# Altium integrated library TI Amplifiers and Linear Operational Amplifier Precision Amplifier Part One.IntLib: 2299 symbols (part 49 of 85)
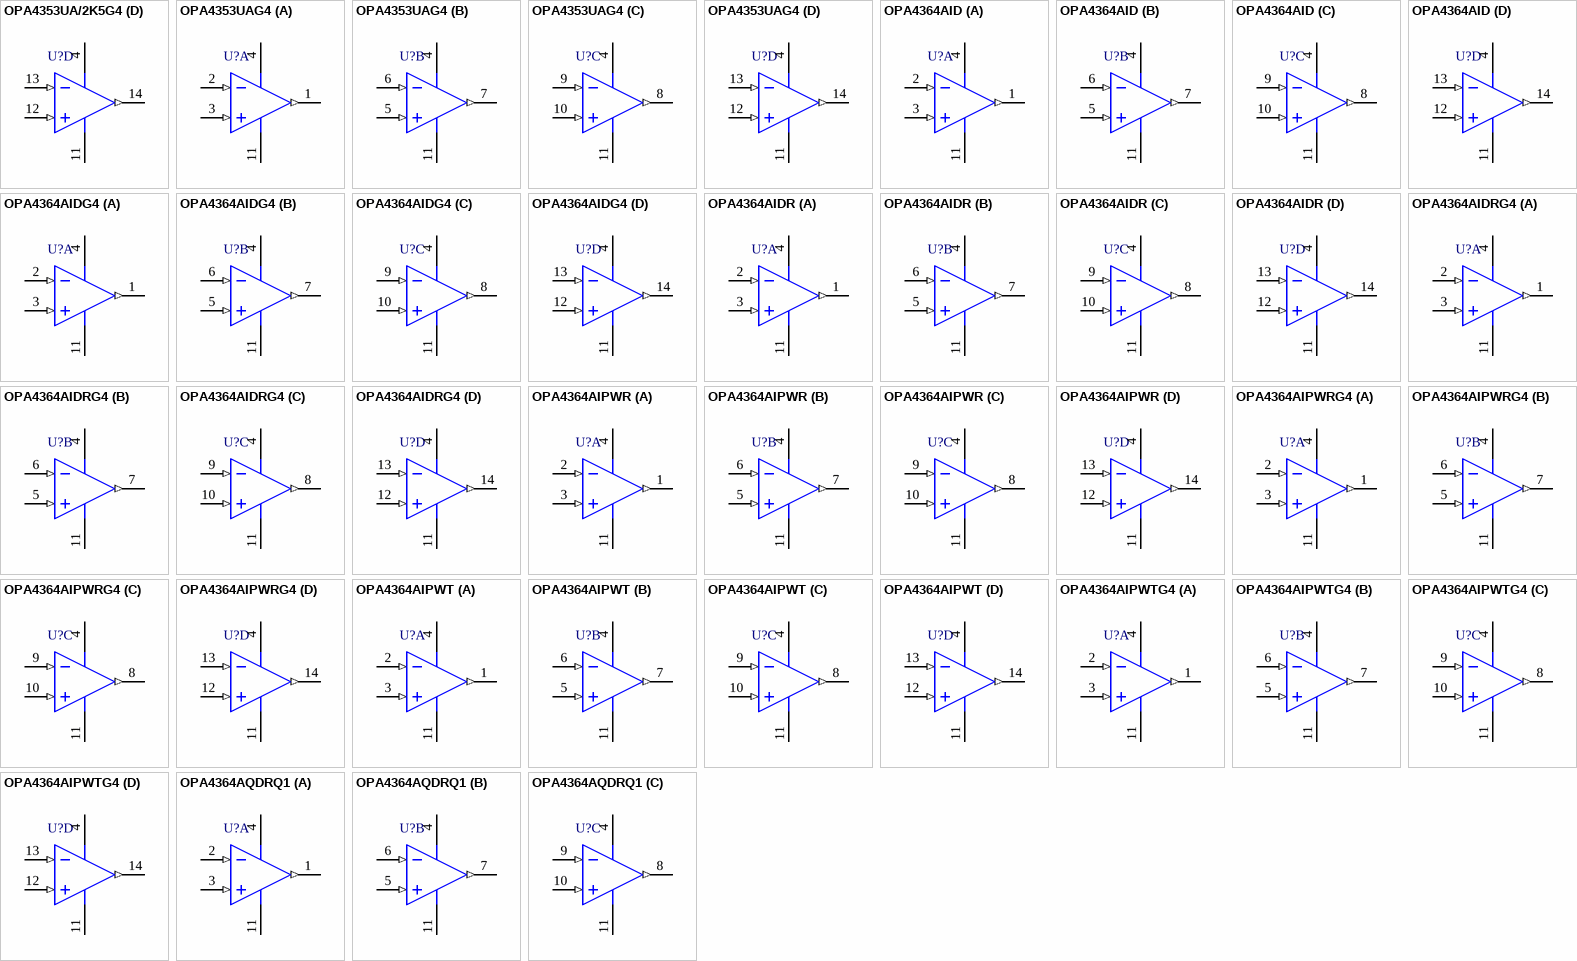
[diagram p172: symbols OPA4353UA/2K5G4 to OPA4364AQDRQ1]

## OPA4353UA/2K5G4
designator U?
High-Speed, Single-Supply, Rail-to-Rail Operational Amplifier MicroAmplifier(TM) Series, 2.7 to 5.5 V, -40 to 85 degC, 14-pin SOIC (D14), Green (RoHS & no Sb/Br); Manufacturer: Texas Instruments; PartNumber: OPA4353UA/2K5G4; CMRR(Min)(dB): 76; GBW(Typ)(MHz): 44; IIB(Max)(pA): 10; Iq per channel(Max)(mA): 8; Number of Channels: 4; Offset Drift(Typ)(uV/C): 5; Packing: LARGE T&R; Rating: Catalog; Slew Rate(Typ)(V/us): 22; Sub Family: High Output Current Amplifier (>=50mA), Low Input Bias Current Amp (<=10pA), Low Supply Voltage Amplifier (<=2.7V), Precision Amplifier; Total Supply Voltage(Max)(+5V is 5, +/-5V is 10): 5.5; Total Supply Voltage(Min)(+5V is 5, +/-5V is 10): 2.7; DatasheetVersion: SBOS103; PackageVersion: 4040047-5/M, 06/2011; PackageReference: D14; PackageDescription: 14-Pin Plastic Small Outline, Body 8.65 x 3.9 mm, Pitch 1.27 mm; Supplier 1: Digi-Key; Supplier Part Number 1: OPA4353UA/2K5G4-ND; Supplier 2: Mouser; Supplier Part Number 2: 595-OPA4353UA/2K5G4; Eco-Plan: Green (RoHS & no Sb/Br); Vio (25C)(Max)(mV): 8; Mounting Technology: Surface Mount; Code_JEDEC: MS-012; ComponentLink1Description: Manufacturer URL; ComponentLink1URL: http://www.ti.com/; ComponentLink2Description: Datasheet; ComponentLink2URL: http://www.ti.com/lit/ds/symlink/opa4353.pdf; ComponentLink3Description: Package Specification; ComponentLink3URL: http://www.ti.com/lit/ml/mpds177g/mpds177g.pdf
footprint TI-D14_N (SOIC, 14-Leads, Body 8.65x3.9mm, Pitch 1.27mm, IPC Medium Density)
footprint TI-D14_L (SOIC, 14-Leads, Body 8.65x3.9mm, Pitch 1.27mm, IPC High Density)
footprint TI-D14_M (SOIC, 14-Leads, Body 8.65x3.9mm, Pitch 1.27mm, IPC Low Density)
pins on every part: 4 V+ (power), 11 V- (power)
part A pins: 1 OUT A (out), 2 IN A- (in), 3 IN A+ (in)
part B pins: 5 IN B+ (in), 6 IN B- (in), 7 OUT B (out)
part C pins: 8 OUT C (out), 9 IN C- (in), 10 IN C+ (in)
part D pins: 12 IN D+ (in), 13 IN D- (in), 14 OUT D (out)

## OPA4353UAG4
designator U?
High-Speed, Single-Supply, Rail-to-Rail Operational Amplifier MicroAmplifier(TM) Series, 2.7 to 5.5 V, -40 to 85 degC, 14-pin SOIC (D14), Green (RoHS & no Sb/Br); Manufacturer: Texas Instruments; PartNumber: OPA4353UAG4; CMRR(Min)(dB): 76; GBW(Typ)(MHz): 44; IIB(Max)(pA): 10; Iq per channel(Max)(mA): 8; Number of Channels: 4; Offset Drift(Typ)(uV/C): 5; Packing: TUBE; Rating: Catalog; Slew Rate(Typ)(V/us): 22; Sub Family: High Output Current Amplifier (>=50mA), Low Input Bias Current Amp (<=10pA), Low Supply Voltage Amplifier (<=2.7V), Precision Amplifier; Total Supply Voltage(Max)(+5V is 5, +/-5V is 10): 5.5; Total Supply Voltage(Min)(+5V is 5, +/-5V is 10): 2.7; DatasheetVersion: SBOS103; PackageVersion: 4040047-5/M, 06/2011; PackageReference: D14; PackageDescription: 14-Pin Plastic Small Outline, Body 8.65 x 3.9 mm, Pitch 1.27 mm; Supplier 1: Digi-Key; Supplier Part Number 1: OPA4353UAG4-ND; Supplier 2: Mouser; Supplier Part Number 2: 595-OPA4353UAG4; Eco-Plan: Green (RoHS & no Sb/Br); Vio (25C)(Max)(mV): 8; Mounting Technology: Surface Mount; Code_JEDEC: MS-012; ComponentLink1Description: Manufacturer URL; ComponentLink1URL: http://www.ti.com/; ComponentLink2Description: Datasheet; ComponentLink2URL: http://www.ti.com/lit/ds/symlink/opa4353.pdf; ComponentLink3Description: Package Specification; ComponentLink3URL: http://www.ti.com/lit/ml/mpds177g/mpds177g.pdf
footprint TI-D14_N (SOIC, 14-Leads, Body 8.65x3.9mm, Pitch 1.27mm, IPC Medium Density)
footprint TI-D14_L (SOIC, 14-Leads, Body 8.65x3.9mm, Pitch 1.27mm, IPC High Density)
footprint TI-D14_M (SOIC, 14-Leads, Body 8.65x3.9mm, Pitch 1.27mm, IPC Low Density)
pins on every part: 4 V+ (power), 11 V- (power)
part A pins: 1 OUT A (out), 2 IN A- (in), 3 IN A+ (in)
part B pins: 5 IN B+ (in), 6 IN B- (in), 7 OUT B (out)
part C pins: 8 OUT C (out), 9 IN C- (in), 10 IN C+ (in)
part D pins: 12 IN D+ (in), 13 IN D- (in), 14 OUT D (out)

## OPA4364AID
designator U?
High CMR, RRIO Operational Amplifier, 1.8 to 5.5 V, -40 to 125 degC, 14-pin SOIC (D14), Green (RoHS & no Sb/Br); Manufacturer: Texas Instruments; PartNumber: OPA4364AID; CMRR(Min)(dB): 74; GBW(Typ)(MHz): 7; IIB(Max)(pA): 10; Iq per channel(Max)(mA): 0.75; Number of Channels: 4; Offset Drift(Typ)(uV/C): 3; Packing: TUBE; Rating: Catalog; Slew Rate(Typ)(V/us): 5; Sub Family: High Output Current Amplifier (>=50mA), Low Input Bias Current Amp (<=10pA), Low Supply Voltage Amplifier (<=2.7V), Precision Amplifier; Total Supply Voltage(Max)(+5V is 5, +/-5V is 10): 5.5; Total Supply Voltage(Min)(+5V is 5, +/-5V is 10): 1.8; Vio (25C)(Max)(mV): 2.5; DatasheetVersion: SBOS259C; PackageVersion: 4040047-5/M, 06/2011; PackageReference: D14; PackageDescription: 14-Pin Plastic Small Outline, Body 8.65 x 3.9 mm, Pitch 1.27 mm; Supplier 1: Digi-Key; Supplier Part Number 1: 296-14629-5-ND; Supplier 2: Newark; Supplier Part Number 2: 32H5899; Supplier 3: Mouser; Supplier Part Number 3: 595-OPA4364AID; Eco-Plan: Green (RoHS & no Sb/Br); Mounting Technology: Surface Mount; Code_JEDEC: MS-012; ComponentLink1Description: Manufacturer URL; ComponentLink1URL: http://www.ti.com/; ComponentLink2Description: Datasheet; ComponentLink2URL: http://www.ti.com/lit/ds/symlink/opa4364.pdf; ComponentLink3Description: Package Specification; ComponentLink3URL: http://www.ti.com/lit/ml/mpds177g/mpds177g.pdf
footprint TI-D14_N (SOIC, 14-Leads, Body 8.65x3.9mm, Pitch 1.27mm, IPC Medium Density)
footprint TI-D14_L (SOIC, 14-Leads, Body 8.65x3.9mm, Pitch 1.27mm, IPC High Density)
footprint TI-D14_M (SOIC, 14-Leads, Body 8.65x3.9mm, Pitch 1.27mm, IPC Low Density)
pins on every part: 4 V+ (power), 11 V- (power)
part A pins: 1 VOUT A (out), 2 IN A- (in), 3 IN A+ (in)
part B pins: 5 IN B+ (in), 6 IN B- (in), 7 VOUT B (out)
part C pins: 8 VOUT C (out), 9 IN C- (in), 10 IN C+ (in)
part D pins: 12 IN D+ (in), 13 IN D- (in), 14 VOUT D (out)

## OPA4364AIDG4
designator U?
High CMR, RRIO Operational Amplifier, 1.8 to 5.5 V, -40 to 125 degC, 14-pin SOIC (D14), Green (RoHS & no Sb/Br); Manufacturer: Texas Instruments; PartNumber: OPA4364AIDG4; CMRR(Min)(dB): 74; GBW(Typ)(MHz): 7; IIB(Max)(pA): 10; Iq per channel(Max)(mA): 0.75; Number of Channels: 4; Offset Drift(Typ)(uV/C): 3; Packing: TUBE; Rating: Catalog; Slew Rate(Typ)(V/us): 5; Sub Family: High Output Current Amplifier (>=50mA), Low Input Bias Current Amp (<=10pA), Low Supply Voltage Amplifier (<=2.7V), Precision Amplifier; Total Supply Voltage(Max)(+5V is 5, +/-5V is 10): 5.5; Total Supply Voltage(Min)(+5V is 5, +/-5V is 10): 1.8; Vio (25C)(Max)(mV): 2.5; DatasheetVersion: SBOS259C; PackageVersion: 4040047-5/M, 06/2011; PackageReference: D14; PackageDescription: 14-Pin Plastic Small Outline, Body 8.65 x 3.9 mm, Pitch 1.27 mm; Supplier 1: Digi-Key; Supplier Part Number 1: OPA4364AIDG4-ND; Supplier 2: Mouser; Supplier Part Number 2: 595-OPA4364AIDG4; Eco-Plan: Green (RoHS & no Sb/Br); Mounting Technology: Surface Mount; Code_JEDEC: MS-012; ComponentLink1Description: Manufacturer URL; ComponentLink1URL: http://www.ti.com/; ComponentLink2Description: Datasheet; ComponentLink2URL: http://www.ti.com/lit/ds/symlink/opa4364.pdf; ComponentLink3Description: Package Specification; ComponentLink3URL: http://www.ti.com/lit/ml/mpds177g/mpds177g.pdf
footprint TI-D14_N (SOIC, 14-Leads, Body 8.65x3.9mm, Pitch 1.27mm, IPC Medium Density)
footprint TI-D14_L (SOIC, 14-Leads, Body 8.65x3.9mm, Pitch 1.27mm, IPC High Density)
footprint TI-D14_M (SOIC, 14-Leads, Body 8.65x3.9mm, Pitch 1.27mm, IPC Low Density)
pins on every part: 4 V+ (power), 11 V- (power)
part A pins: 1 VOUT A (out), 2 IN A- (in), 3 IN A+ (in)
part B pins: 5 IN B+ (in), 6 IN B- (in), 7 VOUT B (out)
part C pins: 8 VOUT C (out), 9 IN C- (in), 10 IN C+ (in)
part D pins: 12 IN D+ (in), 13 IN D- (in), 14 VOUT D (out)

## OPA4364AIDR
designator U?
High CMR, RRIO Operational Amplifier, 1.8 to 5.5 V, -40 to 125 degC, 14-pin SOIC (D14), Green (RoHS & no Sb/Br); Manufacturer: Texas Instruments; PartNumber: OPA4364AIDR; CMRR(Min)(dB): 74; GBW(Typ)(MHz): 7; IIB(Max)(pA): 10; Iq per channel(Max)(mA): 0.75; Number of Channels: 4; Offset Drift(Typ)(uV/C): 3; Packing: LARGE T&R; Rating: Catalog; Slew Rate(Typ)(V/us): 5; Sub Family: High Output Current Amplifier (>=50mA), Low Input Bias Current Amp (<=10pA), Low Supply Voltage Amplifier (<=2.7V), Precision Amplifier; Total Supply Voltage(Max)(+5V is 5, +/-5V is 10): 5.5; Total Supply Voltage(Min)(+5V is 5, +/-5V is 10): 1.8; Vio (25C)(Max)(mV): 2.5; DatasheetVersion: SBOS259C; PackageVersion: 4040047-5/M, 06/2011; PackageReference: D14; PackageDescription: 14-Pin Plastic Small Outline, Body 8.65 x 3.9 mm, Pitch 1.27 mm; Supplier 1: Digi-Key; Supplier Part Number 1: OPA4364AIDR-ND; Supplier 2: Mouser; Supplier Part Number 2: 595-OPA4364AIDR; Eco-Plan: Green (RoHS & no Sb/Br); Mounting Technology: Surface Mount; Code_JEDEC: MS-012; ComponentLink1Description: Manufacturer URL; ComponentLink1URL: http://www.ti.com/; ComponentLink2Description: Datasheet; ComponentLink2URL: http://www.ti.com/lit/ds/symlink/opa4364.pdf; ComponentLink3Description: Package Specification; ComponentLink3URL: http://www.ti.com/lit/ml/mpds177g/mpds177g.pdf
footprint TI-D14_N (SOIC, 14-Leads, Body 8.65x3.9mm, Pitch 1.27mm, IPC Medium Density)
footprint TI-D14_L (SOIC, 14-Leads, Body 8.65x3.9mm, Pitch 1.27mm, IPC High Density)
footprint TI-D14_M (SOIC, 14-Leads, Body 8.65x3.9mm, Pitch 1.27mm, IPC Low Density)
pins on every part: 4 V+ (power), 11 V- (power)
part A pins: 1 VOUT A (out), 2 IN A- (in), 3 IN A+ (in)
part B pins: 5 IN B+ (in), 6 IN B- (in), 7 VOUT B (out)
part C pins: 8 VOUT C (out), 9 IN C- (in), 10 IN C+ (in)
part D pins: 12 IN D+ (in), 13 IN D- (in), 14 VOUT D (out)

## OPA4364AIDRG4
designator U?
High CMR, RRIO Operational Amplifier, 1.8 to 5.5 V, -40 to 125 degC, 14-pin SOIC (D14), Green (RoHS & no Sb/Br); Manufacturer: Texas Instruments; PartNumber: OPA4364AIDRG4; CMRR(Min)(dB): 74; GBW(Typ)(MHz): 7; IIB(Max)(pA): 10; Iq per channel(Max)(mA): 0.75; Number of Channels: 4; Offset Drift(Typ)(uV/C): 3; Packing: LARGE T&R; Rating: Catalog; Slew Rate(Typ)(V/us): 5; Sub Family: High Output Current Amplifier (>=50mA), Low Input Bias Current Amp (<=10pA), Low Supply Voltage Amplifier (<=2.7V), Precision Amplifier; Total Supply Voltage(Max)(+5V is 5, +/-5V is 10): 5.5; Total Supply Voltage(Min)(+5V is 5, +/-5V is 10): 1.8; Vio (25C)(Max)(mV): 2.5; DatasheetVersion: SBOS259C; PackageVersion: 4040047-5/M, 06/2011; PackageReference: D14; PackageDescription: 14-Pin Plastic Small Outline, Body 8.65 x 3.9 mm, Pitch 1.27 mm; Supplier 1: Digi-Key; Supplier Part Number 1: OPA4364AIDRG4-ND; Supplier 2: Newark; Supplier Part Number 2: 54K0173; Supplier 3: Mouser; Supplier Part Number 3: 595-OPA4364AIDRG4; Eco-Plan: Green (RoHS & no Sb/Br); Mounting Technology: Surface Mount; Code_JEDEC: MS-012; ComponentLink1Description: Manufacturer URL; ComponentLink1URL: http://www.ti.com/; ComponentLink2Description: Datasheet; ComponentLink2URL: http://www.ti.com/lit/ds/symlink/opa4364.pdf; ComponentLink3Description: Package Specification; ComponentLink3URL: http://www.ti.com/lit/ml/mpds177g/mpds177g.pdf
footprint TI-D14_N (SOIC, 14-Leads, Body 8.65x3.9mm, Pitch 1.27mm, IPC Medium Density)
footprint TI-D14_L (SOIC, 14-Leads, Body 8.65x3.9mm, Pitch 1.27mm, IPC High Density)
footprint TI-D14_M (SOIC, 14-Leads, Body 8.65x3.9mm, Pitch 1.27mm, IPC Low Density)
pins on every part: 4 V+ (power), 11 V- (power)
part A pins: 1 VOUT A (out), 2 IN A- (in), 3 IN A+ (in)
part B pins: 5 IN B+ (in), 6 IN B- (in), 7 VOUT B (out)
part C pins: 8 VOUT C (out), 9 IN C- (in), 10 IN C+ (in)
part D pins: 12 IN D+ (in), 13 IN D- (in), 14 VOUT D (out)

## OPA4364AIPWR
designator U?
High CMR, RRIO Operational Amplifier, 1.8 to 5.5 V, -40 to 125 degC, 14-pin SOP (PW14), Green (RoHS & no Sb/Br); Manufacturer: Texas Instruments; PartNumber: OPA4364AIPWR; CMRR(Min)(dB): 74; GBW(Typ)(MHz): 7; IIB(Max)(pA): 10; Iq per channel(Max)(mA): 0.75; Number of Channels: 4; Offset Drift(Typ)(uV/C): 3; Packing: LARGE T&R; Rating: Catalog; Slew Rate(Typ)(V/us): 5; Sub Family: High Output Current Amplifier (>=50mA), Low Input Bias Current Amp (<=10pA), Low Supply Voltage Amplifier (<=2.7V), Precision Amplifier; Total Supply Voltage(Max)(+5V is 5, +/-5V is 10): 5.5; Total Supply Voltage(Min)(+5V is 5, +/-5V is 10): 1.8; Vio (25C)(Max)(mV): 2.5; DatasheetVersion: SBOS259C; PackageVersion: 4040064-3/G, 02/2011; PackageReference: PW14; PackageDescription: 14-Pin Plastic Small Outline, Body 5 x 4.4 mm, Pitch 0.65 mm; Supplier 1: Digi-Key; Supplier Part Number 1: OPA4364AIPWR-ND; Supplier 2: Newark; Supplier Part Number 2: 32H5901; Supplier 3: Mouser; Supplier Part Number 3: 595-OPA4364AIPWR; Eco-Plan: Green (RoHS & no Sb/Br); Mounting Technology: Surface Mount; Code_JEDEC: MO-153; ComponentLink1Description: Manufacturer URL; ComponentLink1URL: http://www.ti.com/; ComponentLink2Description: Datasheet; ComponentLink2URL: http://www.ti.com/lit/ds/symlink/opa4364.pdf; ComponentLink3Description: Package Specification; ComponentLink3URL: http://www.ti.com/litv/pdf/mpds360
footprint TI-PW14_N (SOP, 14-Leads, Body 5x4.4mm, Pitch 0.65mm, IPC Medium Density)
footprint TI-PW14_L (SOP, 14-Leads, Body 5x4.4mm, Pitch 0.65mm, IPC High Density)
footprint TI-PW14_M (SOP, 14-Leads, Body 5x4.4mm, Pitch 0.65mm, IPC Low Density)
pins on every part: 4 V+ (power), 11 V- (power)
part A pins: 1 VOUT A (out), 2 IN A- (in), 3 IN A+ (in)
part B pins: 5 IN B+ (in), 6 IN B- (in), 7 VOUT B (out)
part C pins: 8 VOUT C (out), 9 IN C- (in), 10 IN C+ (in)
part D pins: 12 IN D+ (in), 13 IN D- (in), 14 VOUT D (out)

## OPA4364AIPWRG4
designator U?
High CMR, RRIO Operational Amplifier, 1.8 to 5.5 V, -40 to 125 degC, 14-pin SOP (PW14), Green (RoHS & no Sb/Br); Manufacturer: Texas Instruments; PartNumber: OPA4364AIPWRG4; CMRR(Min)(dB): 74; GBW(Typ)(MHz): 7; IIB(Max)(pA): 10; Iq per channel(Max)(mA): 0.75; Number of Channels: 4; Offset Drift(Typ)(uV/C): 3; Packing: LARGE T&R; Rating: Catalog; Slew Rate(Typ)(V/us): 5; Sub Family: High Output Current Amplifier (>=50mA), Low Input Bias Current Amp (<=10pA), Low Supply Voltage Amplifier (<=2.7V), Precision Amplifier; Total Supply Voltage(Max)(+5V is 5, +/-5V is 10): 5.5; Total Supply Voltage(Min)(+5V is 5, +/-5V is 10): 1.8; Vio (25C)(Max)(mV): 2.5; DatasheetVersion: SBOS259C; PackageVersion: 4040064-3/G, 02/2011; PackageReference: PW14; PackageDescription: 14-Pin Plastic Small Outline, Body 5 x 4.4 mm, Pitch 0.65 mm; Supplier 1: Digi-Key; Supplier Part Number 1: OPA4364AIPWRG4-ND; Supplier 2: Mouser; Supplier Part Number 2: 595-OPA4364AIPWRG4; Eco-Plan: Green (RoHS & no Sb/Br); Mounting Technology: Surface Mount; Code_JEDEC: MO-153; ComponentLink1Description: Manufacturer URL; ComponentLink1URL: http://www.ti.com/; ComponentLink2Description: Datasheet; ComponentLink2URL: http://www.ti.com/lit/ds/symlink/opa4364.pdf; ComponentLink3Description: Package Specification; ComponentLink3URL: http://www.ti.com/litv/pdf/mpds360
footprint TI-PW14_N (SOP, 14-Leads, Body 5x4.4mm, Pitch 0.65mm, IPC Medium Density)
footprint TI-PW14_L (SOP, 14-Leads, Body 5x4.4mm, Pitch 0.65mm, IPC High Density)
footprint TI-PW14_M (SOP, 14-Leads, Body 5x4.4mm, Pitch 0.65mm, IPC Low Density)
pins on every part: 4 V+ (power), 11 V- (power)
part A pins: 1 VOUT A (out), 2 IN A- (in), 3 IN A+ (in)
part B pins: 5 IN B+ (in), 6 IN B- (in), 7 VOUT B (out)
part C pins: 8 VOUT C (out), 9 IN C- (in), 10 IN C+ (in)
part D pins: 12 IN D+ (in), 13 IN D- (in), 14 VOUT D (out)

## OPA4364AIPWT
designator U?
High CMR, RRIO Operational Amplifier, 1.8 to 5.5 V, -40 to 125 degC, 14-pin SOP (PW14), Green (RoHS & no Sb/Br); Manufacturer: Texas Instruments; PartNumber: OPA4364AIPWT; CMRR(Min)(dB): 74; GBW(Typ)(MHz): 7; IIB(Max)(pA): 10; Iq per channel(Max)(mA): 0.75; Number of Channels: 4; Offset Drift(Typ)(uV/C): 3; Packing: SMALL T&R; Rating: Catalog; Slew Rate(Typ)(V/us): 5; Sub Family: High Output Current Amplifier (>=50mA), Low Input Bias Current Amp (<=10pA), Low Supply Voltage Amplifier (<=2.7V), Precision Amplifier; Total Supply Voltage(Max)(+5V is 5, +/-5V is 10): 5.5; Total Supply Voltage(Min)(+5V is 5, +/-5V is 10): 1.8; Vio (25C)(Max)(mV): 2.5; DatasheetVersion: SBOS259C; PackageVersion: 4040064-3/G, 02/2011; PackageReference: PW14; PackageDescription: 14-Pin Plastic Small Outline, Body 5 x 4.4 mm, Pitch 0.65 mm; Supplier 1: Digi-Key; Supplier Part Number 1: 296-14630-2-ND; Supplier 2: Digi-Key; Supplier Part Number 2: 296-14630-1-ND; Supplier 3: Digi-Key; Supplier Part Number 3: 296-14630-6-ND; Supplier 4: Farnell; Supplier Part Number 4: 1648713; Supplier 5: Newark; Supplier Part Number 5: 80P7371; Supplier 6: Newark; Supplier Part Number 6: 32H5902; Supplier 7: Mouser; Supplier Part Number 7: 595-OPA4364AIPWT; Eco-Plan: Green (RoHS & no Sb/Br); Mounting Technology: Surface Mount; Code_JEDEC: MO-153; ComponentLink1Description: Manufacturer URL; ComponentLink1URL: http://www.ti.com/; ComponentLink2Description: Datasheet; ComponentLink2URL: http://www.ti.com/lit/ds/symlink/opa4364.pdf; ComponentLink3Description: Package Specification; ComponentLink3URL: http://www.ti.com/litv/pdf/mpds360
footprint TI-PW14_N (SOP, 14-Leads, Body 5x4.4mm, Pitch 0.65mm, IPC Medium Density)
footprint TI-PW14_L (SOP, 14-Leads, Body 5x4.4mm, Pitch 0.65mm, IPC High Density)
footprint TI-PW14_M (SOP, 14-Leads, Body 5x4.4mm, Pitch 0.65mm, IPC Low Density)
pins on every part: 4 V+ (power), 11 V- (power)
part A pins: 1 VOUT A (out), 2 IN A- (in), 3 IN A+ (in)
part B pins: 5 IN B+ (in), 6 IN B- (in), 7 VOUT B (out)
part C pins: 8 VOUT C (out), 9 IN C- (in), 10 IN C+ (in)
part D pins: 12 IN D+ (in), 13 IN D- (in), 14 VOUT D (out)

## OPA4364AIPWTG4
designator U?
High CMR, RRIO Operational Amplifier, 1.8 to 5.5 V, -40 to 125 degC, 14-pin SOP (PW14), Green (RoHS & no Sb/Br); Manufacturer: Texas Instruments; PartNumber: OPA4364AIPWTG4; CMRR(Min)(dB): 74; GBW(Typ)(MHz): 7; IIB(Max)(pA): 10; Iq per channel(Max)(mA): 0.75; Number of Channels: 4; Offset Drift(Typ)(uV/C): 3; Packing: SMALL T&R; Rating: Catalog; Slew Rate(Typ)(V/us): 5; Sub Family: High Output Current Amplifier (>=50mA), Low Input Bias Current Amp (<=10pA), Low Supply Voltage Amplifier (<=2.7V), Precision Amplifier; Total Supply Voltage(Max)(+5V is 5, +/-5V is 10): 5.5; Total Supply Voltage(Min)(+5V is 5, +/-5V is 10): 1.8; Vio (25C)(Max)(mV): 2.5; DatasheetVersion: SBOS259C; PackageVersion: 4040064-3/G, 02/2011; PackageReference: PW14; PackageDescription: 14-Pin Plastic Small Outline, Body 5 x 4.4 mm, Pitch 0.65 mm; Supplier 1: Digi-Key; Supplier Part Number 1: OPA4364AIPWTG4-ND; Supplier 2: Mouser; Supplier Part Number 2: 595-OPA4364AIPWTG4; Eco-Plan: Green (RoHS & no Sb/Br); Mounting Technology: Surface Mount; Code_JEDEC: MO-153; ComponentLink1Description: Manufacturer URL; ComponentLink1URL: http://www.ti.com/; ComponentLink2Description: Datasheet; ComponentLink2URL: http://www.ti.com/lit/ds/symlink/opa4364.pdf; ComponentLink3Description: Package Specification; ComponentLink3URL: http://www.ti.com/litv/pdf/mpds360
footprint TI-PW14_N (SOP, 14-Leads, Body 5x4.4mm, Pitch 0.65mm, IPC Medium Density)
footprint TI-PW14_L (SOP, 14-Leads, Body 5x4.4mm, Pitch 0.65mm, IPC High Density)
footprint TI-PW14_M (SOP, 14-Leads, Body 5x4.4mm, Pitch 0.65mm, IPC Low Density)
pins on every part: 4 V+ (power), 11 V- (power)
part A pins: 1 VOUT A (out), 2 IN A- (in), 3 IN A+ (in)
part B pins: 5 IN B+ (in), 6 IN B- (in), 7 VOUT B (out)
part C pins: 8 VOUT C (out), 9 IN C- (in), 10 IN C+ (in)
part D pins: 12 IN D+ (in), 13 IN D- (in), 14 VOUT D (out)

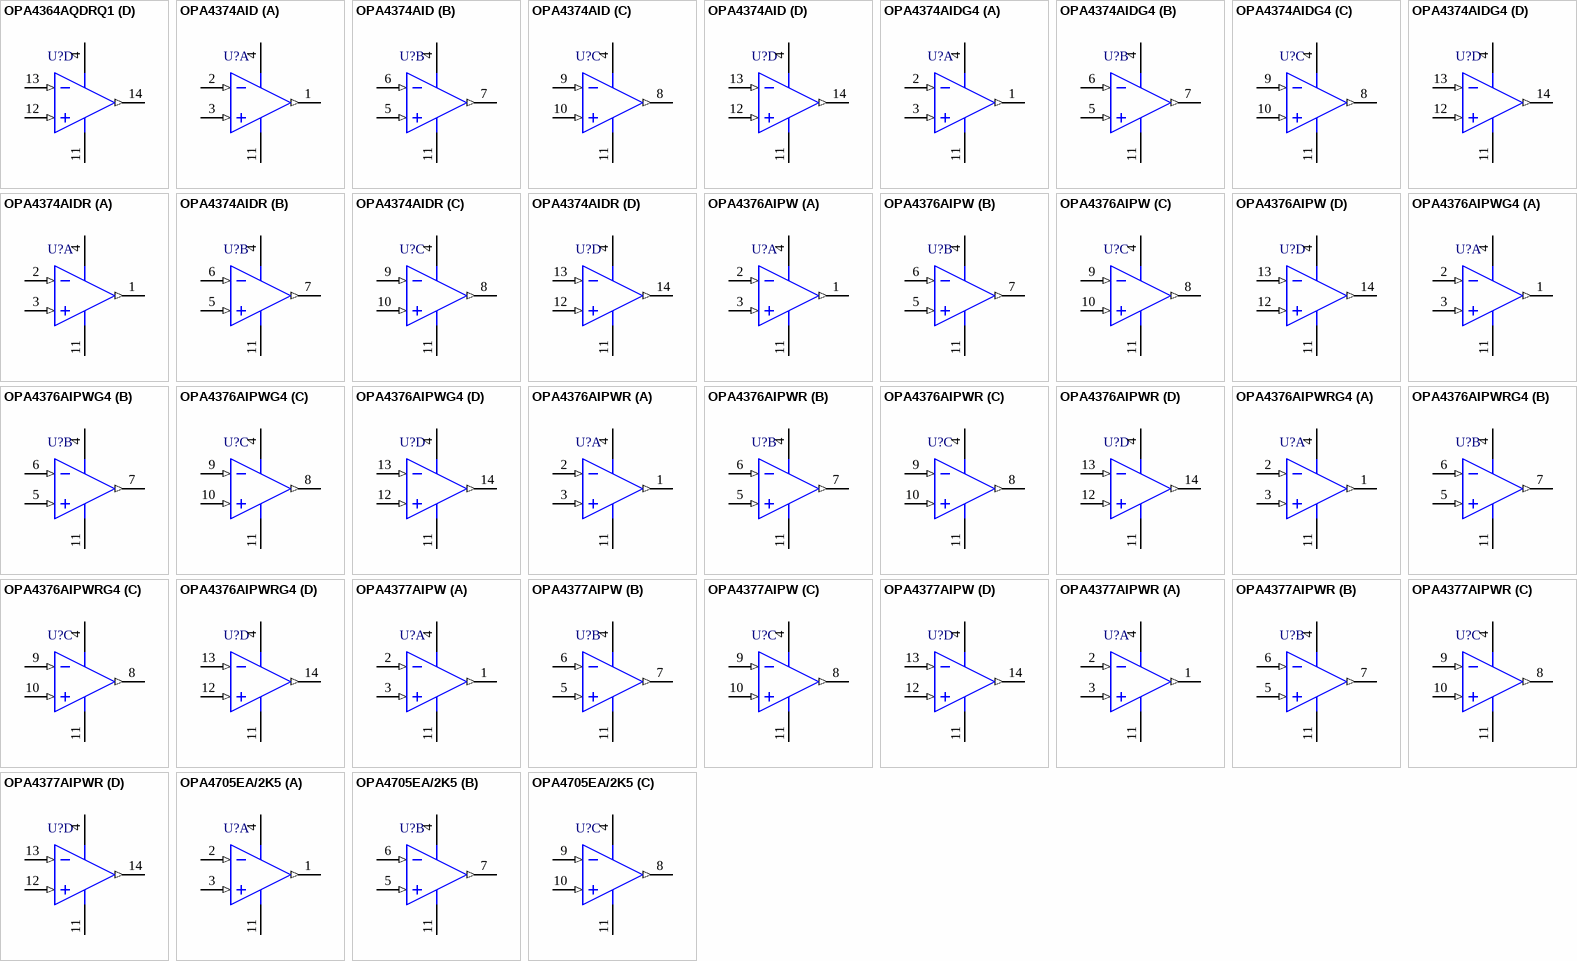
[diagram p67: symbols OPA4364AQDRQ1 to OPA4705EA/2K5]

## OPA4364AQDRQ1
designator U?
Automotive Catalog High CMR, RRIO Operational Amplifier, 1.8 to 5.5 V, -40 to 125 degC, 14-pin SOIC (D14), Green (RoHS & no Sb/Br); Manufacturer: Texas Instruments; PartNumber: OPA4364AQDRQ1; CMRR(Min)(dB): 74; GBW(Typ)(MHz): 7; IIB(Max)(pA): 10; Iq per channel(Max)(mA): 0.75; Number of Channels: 4; Offset Drift(Typ)(uV/C): 3; Packing: LARGE T&R; Slew Rate(Typ)(V/us): 5; Sub Family: High Output Current Amplifier (>=50mA), Low Input Bias Current Amp (<=10pA), Low Supply Voltage Amplifier (<=2.7V), Precision Amplifier; Total Supply Voltage(Max)(+5V is 5, +/-5V is 10): 5.5; Total Supply Voltage(Min)(+5V is 5, +/-5V is 10): 1.8; DatasheetVersion: SGLS363A; PackageVersion: 4040047-5/M, 06/2011; PackageReference: D14; PackageDescription: 14-Pin Plastic Small Outline, Body 8.65 x 3.9 mm, Pitch 1.27 mm; Supplier 1: Digi-Key; Supplier Part Number 1: 296-24548-2-ND; Supplier 2: Digi-Key; Supplier Part Number 2: 296-24548-1-ND; Supplier 3: Digi-Key; Supplier Part Number 3: 296-24548-6-ND; Supplier 4: Mouser; Supplier Part Number 4: 595-OPA4364AQDRQ1; Eco-Plan: Green (RoHS & no Sb/Br); Rating: Automotive; Vio (25C)(Max)(mV): 3; Mounting Technology: Surface Mount; Code_JEDEC: MS-012; ComponentLink1Description: Manufacturer URL; ComponentLink1URL: http://www.ti.com/; ComponentLink2Description: Datasheet; ComponentLink2URL: http://www.ti.com/lit/ds/symlink/opa4364-q1.pdf; ComponentLink3Description: Package Specification; ComponentLink3URL: http://www.ti.com/lit/ml/mpds177g/mpds177g.pdf
footprint TI-D14_N (SOIC, 14-Leads, Body 8.65x3.9mm, Pitch 1.27mm, IPC Medium Density)
footprint TI-D14_L (SOIC, 14-Leads, Body 8.65x3.9mm, Pitch 1.27mm, IPC High Density)
footprint TI-D14_M (SOIC, 14-Leads, Body 8.65x3.9mm, Pitch 1.27mm, IPC Low Density)
pins on every part: 4 V+ (power), 11 V- (power)
part A pins: 1 VOUT A (out), 2 IN A- (in), 3 IN A+ (in)
part B pins: 5 IN B+ (in), 6 IN B- (in), 7 VOUT B (out)
part C pins: 8 VOUT C (out), 9 IN C- (in), 10 IN C+ (in)
part D pins: 12 IN D+ (in), 13 IN D- (in), 14 VOUT D (out)

## OPA4374AID
designator U?
Quad 6.5 MHz, 585 uA, Rail-to-Rail I/O CMOS Operational Amplifier, 2.3 to 5.5 V, -40 to 125 degC, 14-pin SOIC (D14), Green (RoHS & no Sb/Br); Manufacturer: Texas Instruments; PartNumber: OPA4374AID; CMRR(Min)(dB): 80; GBW(Typ)(MHz): 6.5; IIB(Max)(pA): 10; Iq per channel(Max)(mA): 0.75; Number of Channels: 4; Offset Drift(Typ)(uV/C): 3; Packing: TUBE; Rating: Catalog; Slew Rate(Typ)(V/us): 5; Sub Family: High Output Current Amplifier (>=50mA), Low Input Bias Current Amp (<=10pA), Low Supply Voltage Amplifier (<=2.7V), Precision Amplifier; Total Supply Voltage(Max)(+5V is 5, +/-5V is 10): 5.5; Total Supply Voltage(Min)(+5V is 5, +/-5V is 10): 2.3; DatasheetVersion: SBOS279E; PackageVersion: 4040047-5/M, 06/2011; PackageReference: D14; PackageDescription: 14-Pin Plastic Small Outline, Body 8.65 x 3.9 mm, Pitch 1.27 mm; Supplier 1: Digi-Key; Supplier Part Number 1: 296-18201-ND; Supplier 2: Mouser; Supplier Part Number 2: 595-OPA4374AID; Eco-Plan: Green (RoHS & no Sb/Br); Vio (25C)(Max)(mV): 5; Mounting Technology: Surface Mount; Code_JEDEC: MS-012; ComponentLink1Description: Manufacturer URL; ComponentLink1URL: http://www.ti.com/; ComponentLink2Description: Datasheet; ComponentLink2URL: http://www.ti.com/lit/ds/symlink/opa4374.pdf; ComponentLink3Description: Package Specification; ComponentLink3URL: http://www.ti.com/lit/ml/mpds177g/mpds177g.pdf
footprint TI-D14_N (SOIC, 14-Leads, Body 8.65x3.9mm, Pitch 1.27mm, IPC Medium Density)
footprint TI-D14_L (SOIC, 14-Leads, Body 8.65x3.9mm, Pitch 1.27mm, IPC High Density)
footprint TI-D14_M (SOIC, 14-Leads, Body 8.65x3.9mm, Pitch 1.27mm, IPC Low Density)
pins on every part: 4 V+ (power), 11 V- (power)
part A pins: 1 OUT A (out), 2 IN A- (in), 3 IN A+ (in)
part B pins: 5 IN B+ (in), 6 IN B- (in), 7 OUT B (out)
part C pins: 8 OUT C (out), 9 IN C- (in), 10 IN C+ (in)
part D pins: 12 IN D+ (in), 13 IN D- (in), 14 OUT D (out)

## OPA4374AIDG4
designator U?
Quad 6.5 MHz, 585 uA, Rail-to-Rail I/O CMOS Operational Amplifier, 2.3 to 5.5 V, -40 to 125 degC, 14-pin SOIC (D14), Green (RoHS & no Sb/Br); Manufacturer: Texas Instruments; PartNumber: OPA4374AIDG4; CMRR(Min)(dB): 80; GBW(Typ)(MHz): 6.5; IIB(Max)(pA): 10; Iq per channel(Max)(mA): 0.75; Number of Channels: 4; Offset Drift(Typ)(uV/C): 3; Packing: TUBE; Rating: Catalog; Slew Rate(Typ)(V/us): 5; Sub Family: High Output Current Amplifier (>=50mA), Low Input Bias Current Amp (<=10pA), Low Supply Voltage Amplifier (<=2.7V), Precision Amplifier; Total Supply Voltage(Max)(+5V is 5, +/-5V is 10): 5.5; Total Supply Voltage(Min)(+5V is 5, +/-5V is 10): 2.3; DatasheetVersion: SBOS279E; PackageVersion: 4040047-5/M, 06/2011; PackageReference: D14; PackageDescription: 14-Pin Plastic Small Outline, Body 8.65 x 3.9 mm, Pitch 1.27 mm; Supplier 1: Digi-Key; Supplier Part Number 1: OPA4374AIDG4-ND; Supplier 2: Mouser; Supplier Part Number 2: 595-OPA4374AIDG4; Eco-Plan: Green (RoHS & no Sb/Br); Vio (25C)(Max)(mV): 5; Mounting Technology: Surface Mount; Code_JEDEC: MS-012; ComponentLink1Description: Manufacturer URL; ComponentLink1URL: http://www.ti.com/; ComponentLink2Description: Datasheet; ComponentLink2URL: http://www.ti.com/lit/ds/symlink/opa4374.pdf; ComponentLink3Description: Package Specification; ComponentLink3URL: http://www.ti.com/lit/ml/mpds177g/mpds177g.pdf
footprint TI-D14_N (SOIC, 14-Leads, Body 8.65x3.9mm, Pitch 1.27mm, IPC Medium Density)
footprint TI-D14_L (SOIC, 14-Leads, Body 8.65x3.9mm, Pitch 1.27mm, IPC High Density)
footprint TI-D14_M (SOIC, 14-Leads, Body 8.65x3.9mm, Pitch 1.27mm, IPC Low Density)
pins on every part: 4 V+ (power), 11 V- (power)
part A pins: 1 OUT A (out), 2 IN A- (in), 3 IN A+ (in)
part B pins: 5 IN B+ (in), 6 IN B- (in), 7 OUT B (out)
part C pins: 8 OUT C (out), 9 IN C- (in), 10 IN C+ (in)
part D pins: 12 IN D+ (in), 13 IN D- (in), 14 OUT D (out)

## OPA4374AIDR
designator U?
Quad 6.5 MHz, 585 uA, Rail-to-Rail I/O CMOS Operational Amplifier, 2.3 to 5.5 V, -40 to 125 degC, 14-pin SOIC (D14), Green (RoHS & no Sb/Br); Manufacturer: Texas Instruments; PartNumber: OPA4374AIDR; CMRR(Min)(dB): 80; GBW(Typ)(MHz): 6.5; IIB(Max)(pA): 10; Iq per channel(Max)(mA): 0.75; Number of Channels: 4; Offset Drift(Typ)(uV/C): 3; Packing: LARGE T&R; Rating: Catalog; Slew Rate(Typ)(V/us): 5; Sub Family: High Output Current Amplifier (>=50mA), Low Input Bias Current Amp (<=10pA), Low Supply Voltage Amplifier (<=2.7V), Precision Amplifier; Total Supply Voltage(Max)(+5V is 5, +/-5V is 10): 5.5; Total Supply Voltage(Min)(+5V is 5, +/-5V is 10): 2.3; DatasheetVersion: SBOS279E; PackageVersion: 4040047-5/M, 06/2011; PackageReference: D14; PackageDescription: 14-Pin Plastic Small Outline, Body 8.65 x 3.9 mm, Pitch 1.27 mm; Supplier 1: Digi-Key; Supplier Part Number 1: OPA4374AIDR-ND; Supplier 2: Newark; Supplier Part Number 2: 90H2249; Supplier 3: Mouser; Supplier Part Number 3: 595-OPA4374AIDR; Eco-Plan: Green (RoHS & no Sb/Br); Vio (25C)(Max)(mV): 5; Mounting Technology: Surface Mount; Code_JEDEC: MS-012; ComponentLink1Description: Manufacturer URL; ComponentLink1URL: http://www.ti.com/; ComponentLink2Description: Datasheet; ComponentLink2URL: http://www.ti.com/lit/ds/symlink/opa4374.pdf; ComponentLink3Description: Package Specification; ComponentLink3URL: http://www.ti.com/lit/ml/mpds177g/mpds177g.pdf
footprint TI-D14_N (SOIC, 14-Leads, Body 8.65x3.9mm, Pitch 1.27mm, IPC Medium Density)
footprint TI-D14_L (SOIC, 14-Leads, Body 8.65x3.9mm, Pitch 1.27mm, IPC High Density)
footprint TI-D14_M (SOIC, 14-Leads, Body 8.65x3.9mm, Pitch 1.27mm, IPC Low Density)
pins on every part: 4 V+ (power), 11 V- (power)
part A pins: 1 OUT A (out), 2 IN A- (in), 3 IN A+ (in)
part B pins: 5 IN B+ (in), 6 IN B- (in), 7 OUT B (out)
part C pins: 8 OUT C (out), 9 IN C- (in), 10 IN C+ (in)
part D pins: 12 IN D+ (in), 13 IN D- (in), 14 OUT D (out)

## OPA4376AIPW
designator U?
Precision, Low Noise, Low Quiescent Current Operational Amplifier, 2 to 5.5 V, -40 to 125 degC, 14-pin SOP (PW14), Green (RoHS & no Sb/Br); Manufacturer: Texas Instruments; PartNumber: OPA4376AIPW; CMRR(Min)(dB): 76; IIB(Max)(pA): 10; Iq per channel(Max)(mA): 0.95; Number of Channels: 4; Offset Drift(Typ)(uV/C): 0.32; Slew Rate(Typ)(V/us): 2; Sub Family: Low Input Bias Current Amp (<=10pA), Low Noise Amp (<=10nV/rtHz), Low Offset Voltage Amplifier (<=500uV), Low Supply Voltage Amplifier (<=2.7V), Precision Amplifier; Total Supply Voltage(Max)(+5V is 5, +/-5V is 10): 5.5; Vio (25C)(Max)(mV): 0.025; Vn at 1kHz(Typ)(nV/rtHz): 7.5; DatasheetVersion: SBOS406F; PackageVersion: 4040064-3/G, 02/2011; PackageReference: PW14; PackageDescription: 14-Pin Plastic Small Outline, Body 5 x 4.4 mm, Pitch 0.65 mm; Supplier 1: Digi-Key; Supplier Part Number 1: 296-26288-5-ND; Supplier 2: Farnell; Supplier Part Number 2: 1560642; Supplier 3: Newark; Supplier Part Number 3: 94M8595; Supplier 4: Mouser; Supplier Part Number 4: 595-OPA4376AIPW; Eco-Plan: Green (RoHS & no Sb/Br); Total Supply Voltage(Min)(+5V is 5, +/-5V is 10): 2; Mounting Technology: Surface Mount; Code_JEDEC: MO-153; ComponentLink1Description: Manufacturer URL; ComponentLink1URL: http://www.ti.com/; ComponentLink2Description: Datasheet; ComponentLink2URL: http://www.ti.com/general/docs/lit/getliterature.tsp?genericPartNumber=OPA4376&fileType=pdf; ComponentLink3Description: Package Specification; ComponentLink3URL: http://www.ti.com/litv/pdf/mpds360
footprint TI-PW14_N (SOP, 14-Leads, Body 5x4.4mm, Pitch 0.65mm, IPC Medium Density)
footprint TI-PW14_L (SOP, 14-Leads, Body 5x4.4mm, Pitch 0.65mm, IPC High Density)
footprint TI-PW14_M (SOP, 14-Leads, Body 5x4.4mm, Pitch 0.65mm, IPC Low Density)
pins on every part: 4 V+ (power), 11 V- (power)
part A pins: 1 OUT A (out), 2 IN A- (in), 3 IN A+ (in)
part B pins: 5 IN B+ (in), 6 IN B- (in), 7 OUT B (out)
part C pins: 8 OUT C (out), 9 IN C- (in), 10 IN C+ (in)
part D pins: 12 IN D+ (in), 13 IN D- (in), 14 OUT D (out)

## OPA4376AIPWG4
designator U?
Precision, Low Noise, Low Quiescent Current Operational Amplifier, 2 to 5.5 V, -40 to 125 degC, 14-pin SOP (PW14), Green (RoHS & no Sb/Br); Manufacturer: Texas Instruments; PartNumber: OPA4376AIPWG4; CMRR(Min)(dB): 76; IIB(Max)(pA): 10; Iq per channel(Max)(mA): 0.95; Number of Channels: 4; Offset Drift(Typ)(uV/C): 0.32; Slew Rate(Typ)(V/us): 2; Sub Family: Low Input Bias Current Amp (<=10pA), Low Noise Amp (<=10nV/rtHz), Low Offset Voltage Amplifier (<=500uV), Low Supply Voltage Amplifier (<=2.7V), Precision Amplifier; Total Supply Voltage(Max)(+5V is 5, +/-5V is 10): 5.5; Vio (25C)(Max)(mV): 0.025; Vn at 1kHz(Typ)(nV/rtHz): 7.5; DatasheetVersion: SBOS406F; PackageVersion: 4040064-3/G, 02/2011; PackageReference: PW14; PackageDescription: 14-Pin Plastic Small Outline, Body 5 x 4.4 mm, Pitch 0.65 mm; Supplier 1: Digi-Key; Supplier Part Number 1: OPA4376AIPWG4-ND; Supplier 2: Newark; Supplier Part Number 2: 60M1703; Supplier 3: Mouser; Supplier Part Number 3: 595-OPA4376AIPWG4; Eco-Plan: Green (RoHS & no Sb/Br); Total Supply Voltage(Min)(+5V is 5, +/-5V is 10): 2; Mounting Technology: Surface Mount; Code_JEDEC: MO-153; ComponentLink1Description: Manufacturer URL; ComponentLink1URL: http://www.ti.com/; ComponentLink2Description: Datasheet; ComponentLink2URL: http://www.ti.com/general/docs/lit/getliterature.tsp?genericPartNumber=OPA4376&fileType=pdf; ComponentLink3Description: Package Specification; ComponentLink3URL: http://www.ti.com/litv/pdf/mpds360
footprint TI-PW14_N (SOP, 14-Leads, Body 5x4.4mm, Pitch 0.65mm, IPC Medium Density)
footprint TI-PW14_L (SOP, 14-Leads, Body 5x4.4mm, Pitch 0.65mm, IPC High Density)
footprint TI-PW14_M (SOP, 14-Leads, Body 5x4.4mm, Pitch 0.65mm, IPC Low Density)
pins on every part: 4 V+ (power), 11 V- (power)
part A pins: 1 OUT A (out), 2 IN A- (in), 3 IN A+ (in)
part B pins: 5 IN B+ (in), 6 IN B- (in), 7 OUT B (out)
part C pins: 8 OUT C (out), 9 IN C- (in), 10 IN C+ (in)
part D pins: 12 IN D+ (in), 13 IN D- (in), 14 OUT D (out)

## OPA4376AIPWR
designator U?
Precision, Low Noise, Low Quiescent Current Operational Amplifier, 2 to 5.5 V, -40 to 125 degC, 14-pin SOP (PW14), Green (RoHS & no Sb/Br); Manufacturer: Texas Instruments; PartNumber: OPA4376AIPWR; CMRR(Min)(dB): 76; IIB(Max)(pA): 10; Iq per channel(Max)(mA): 0.95; Number of Channels: 4; Offset Drift(Typ)(uV/C): 0.32; Slew Rate(Typ)(V/us): 2; Sub Family: Low Input Bias Current Amp (<=10pA), Low Noise Amp (<=10nV/rtHz), Low Offset Voltage Amplifier (<=500uV), Low Supply Voltage Amplifier (<=2.7V), Precision Amplifier; Total Supply Voltage(Max)(+5V is 5, +/-5V is 10): 5.5; Vio (25C)(Max)(mV): 0.025; Vn at 1kHz(Typ)(nV/rtHz): 7.5; DatasheetVersion: SBOS406F; PackageVersion: 4040064-3/G, 02/2011; PackageReference: PW14; PackageDescription: 14-Pin Plastic Small Outline, Body 5 x 4.4 mm, Pitch 0.65 mm; Supplier 1: Digi-Key; Supplier Part Number 1: 296-22565-2-ND; Supplier 2: Digi-Key; Supplier Part Number 2: 296-22565-1-ND; Supplier 3: Digi-Key; Supplier Part Number 3: 296-22565-6-ND; Supplier 4: Farnell; Supplier Part Number 4: 1575197; Supplier 5: Newark; Supplier Part Number 5: 54M7257; Supplier 6: Mouser; Supplier Part Number 6: 595-OPA4376AIPWR; Eco-Plan: Green (RoHS & no Sb/Br); Total Supply Voltage(Min)(+5V is 5, +/-5V is 10): 2; Mounting Technology: Surface Mount; Code_JEDEC: MO-153; ComponentLink1Description: Manufacturer URL; ComponentLink1URL: http://www.ti.com/; ComponentLink2Description: Datasheet; ComponentLink2URL: http://www.ti.com/general/docs/lit/getliterature.tsp?genericPartNumber=OPA4376&fileType=pdf; ComponentLink3Description: Package Specification; ComponentLink3URL: http://www.ti.com/litv/pdf/mpds360
footprint TI-PW14_N (SOP, 14-Leads, Body 5x4.4mm, Pitch 0.65mm, IPC Medium Density)
footprint TI-PW14_L (SOP, 14-Leads, Body 5x4.4mm, Pitch 0.65mm, IPC High Density)
footprint TI-PW14_M (SOP, 14-Leads, Body 5x4.4mm, Pitch 0.65mm, IPC Low Density)
pins on every part: 4 V+ (power), 11 V- (power)
part A pins: 1 OUT A (out), 2 IN A- (in), 3 IN A+ (in)
part B pins: 5 IN B+ (in), 6 IN B- (in), 7 OUT B (out)
part C pins: 8 OUT C (out), 9 IN C- (in), 10 IN C+ (in)
part D pins: 12 IN D+ (in), 13 IN D- (in), 14 OUT D (out)

## OPA4376AIPWRG4
designator U?
Precision, Low Noise, Low Quiescent Current Operational Amplifier, 2 to 5.5 V, -40 to 125 degC, 14-pin SOP (PW14), Green (RoHS & no Sb/Br); Manufacturer: Texas Instruments; PartNumber: OPA4376AIPWRG4; CMRR(Min)(dB): 76; IIB(Max)(pA): 10; Iq per channel(Max)(mA): 0.95; Number of Channels: 4; Offset Drift(Typ)(uV/C): 0.32; Slew Rate(Typ)(V/us): 2; Sub Family: Low Input Bias Current Amp (<=10pA), Low Noise Amp (<=10nV/rtHz), Low Offset Voltage Amplifier (<=500uV), Low Supply Voltage Amplifier (<=2.7V), Precision Amplifier; Total Supply Voltage(Max)(+5V is 5, +/-5V is 10): 5.5; Vio (25C)(Max)(mV): 0.025; Vn at 1kHz(Typ)(nV/rtHz): 7.5; DatasheetVersion: SBOS406F; PackageVersion: 4040064-3/G, 02/2011; PackageReference: PW14; PackageDescription: 14-Pin Plastic Small Outline, Body 5 x 4.4 mm, Pitch 0.65 mm; Supplier 1: Digi-Key; Supplier Part Number 1: OPA4376AIPWRG4-ND; Supplier 2: Newark; Supplier Part Number 2: 60M1704; Supplier 3: Mouser; Supplier Part Number 3: 595-OPA4376AIPWRG4; Eco-Plan: Green (RoHS & no Sb/Br); Total Supply Voltage(Min)(+5V is 5, +/-5V is 10): 2; Mounting Technology: Surface Mount; Code_JEDEC: MO-153; ComponentLink1Description: Manufacturer URL; ComponentLink1URL: http://www.ti.com/; ComponentLink2Description: Datasheet; ComponentLink2URL: http://www.ti.com/general/docs/lit/getliterature.tsp?genericPartNumber=OPA4376&fileType=pdf; ComponentLink3Description: Package Specification; ComponentLink3URL: http://www.ti.com/litv/pdf/mpds360
footprint TI-PW14_N (SOP, 14-Leads, Body 5x4.4mm, Pitch 0.65mm, IPC Medium Density)
footprint TI-PW14_L (SOP, 14-Leads, Body 5x4.4mm, Pitch 0.65mm, IPC High Density)
footprint TI-PW14_M (SOP, 14-Leads, Body 5x4.4mm, Pitch 0.65mm, IPC Low Density)
pins on every part: 4 V+ (power), 11 V- (power)
part A pins: 1 OUT A (out), 2 IN A- (in), 3 IN A+ (in)
part B pins: 5 IN B+ (in), 6 IN B- (in), 7 OUT B (out)
part C pins: 8 OUT C (out), 9 IN C- (in), 10 IN C+ (in)
part D pins: 12 IN D+ (in), 13 IN D- (in), 14 OUT D (out)

## OPA4377AIPW
designator U?
Low-Cost, Low Noise, 5.5 MHz CMOS Operational Amplifier, 2.2 to 5.5 V, -40 to 125 degC, 14-pin SOP (PW14), Green (RoHS & no Sb/Br); Manufacturer: Texas Instruments; PartNumber: OPA4377AIPW; CMRR(Min)(dB): 70; IIB(Max)(pA): 10; Iq per channel(Max)(mA): 1.05; Number of Channels: 4; Offset Drift(Typ)(uV/C): 0.32; Slew Rate(Typ)(V/us): 2; Sub Family: Low Input Bias Current Amp (<=10pA), Low Noise Amp (<=10nV/rtHz), Low Supply Voltage Amplifier (<=2.7V), Precision Amplifier; Total Supply Voltage(Max)(+5V is 5, +/-5V is 10): 5.5; Total Supply Voltage(Min)(+5V is 5, +/-5V is 10): 2.2; Vio (25C)(Max)(mV): 1; Vn at 1kHz(Typ)(nV/rtHz): 7.5; DatasheetVersion: SBOS504B; PackageVersion: 4040064-3/G, 02/2011; PackageReference: PW14; PackageDescription: 14-Pin Plastic Small Outline, Body 5 x 4.4 mm, Pitch 0.65 mm; Supplier 1: Digi-Key; Supplier Part Number 1: 296-28046-5-ND; Supplier 2: Newark; Supplier Part Number 2: 21T3848; Supplier 3: Mouser; Supplier Part Number 3: 595-OPA4377AIPW; Eco-Plan: Green (RoHS & no Sb/Br); Mounting Technology: Surface Mount; Code_JEDEC: MO-153; ComponentLink1Description: Manufacturer URL; ComponentLink1URL: http://www.ti.com/; ComponentLink2Description: Datasheet; ComponentLink2URL: http://www.ti.com/general/docs/lit/getliterature.tsp?genericPartNumber=OPA4377&fileType=pdf; ComponentLink3Description: Package Specification; ComponentLink3URL: http://www.ti.com/litv/pdf/mpds360
footprint TI-PW14_N (SOP, 14-Leads, Body 5x4.4mm, Pitch 0.65mm, IPC Medium Density)
footprint TI-PW14_L (SOP, 14-Leads, Body 5x4.4mm, Pitch 0.65mm, IPC High Density)
footprint TI-PW14_M (SOP, 14-Leads, Body 5x4.4mm, Pitch 0.65mm, IPC Low Density)
pins on every part: 4 V+ (power), 11 V- (power)
part A pins: 1 OUT A (out), 2 IN A- (in), 3 IN A+ (in)
part B pins: 5 IN B+ (in), 6 IN B- (in), 7 OUT B (out)
part C pins: 8 OUT C (out), 9 IN C- (in), 10 IN C+ (in)
part D pins: 12 IN D+ (in), 13 IN D- (in), 14 OUT D (out)

## OPA4377AIPWR
designator U?
Low-Cost, Low Noise, 5.5 MHz CMOS Operational Amplifier, 2.2 to 5.5 V, -40 to 125 degC, 14-pin SOP (PW14), Green (RoHS & no Sb/Br); Manufacturer: Texas Instruments; PartNumber: OPA4377AIPWR; CMRR(Min)(dB): 70; IIB(Max)(pA): 10; Iq per channel(Max)(mA): 1.05; Number of Channels: 4; Offset Drift(Typ)(uV/C): 0.32; Slew Rate(Typ)(V/us): 2; Sub Family: Low Input Bias Current Amp (<=10pA), Low Noise Amp (<=10nV/rtHz), Low Supply Voltage Amplifier (<=2.7V), Precision Amplifier; Total Supply Voltage(Max)(+5V is 5, +/-5V is 10): 5.5; Total Supply Voltage(Min)(+5V is 5, +/-5V is 10): 2.2; Vio (25C)(Max)(mV): 1; Vn at 1kHz(Typ)(nV/rtHz): 7.5; DatasheetVersion: SBOS504B; PackageVersion: 4040064-3/G, 02/2011; PackageReference: PW14; PackageDescription: 14-Pin Plastic Small Outline, Body 5 x 4.4 mm, Pitch 0.65 mm; Supplier 1: Digi-Key; Supplier Part Number 1: OPA4377AIPWR-ND; Supplier 2: Mouser; Supplier Part Number 2: 595-OPA4377AIPWR; Eco-Plan: Green (RoHS & no Sb/Br); Mounting Technology: Surface Mount; Code_JEDEC: MO-153; ComponentLink1Description: Manufacturer URL; ComponentLink1URL: http://www.ti.com/; ComponentLink2Description: Datasheet; ComponentLink2URL: http://www.ti.com/general/docs/lit/getliterature.tsp?genericPartNumber=OPA4377&fileType=pdf; ComponentLink3Description: Package Specification; ComponentLink3URL: http://www.ti.com/litv/pdf/mpds360
footprint TI-PW14_N (SOP, 14-Leads, Body 5x4.4mm, Pitch 0.65mm, IPC Medium Density)
footprint TI-PW14_L (SOP, 14-Leads, Body 5x4.4mm, Pitch 0.65mm, IPC High Density)
footprint TI-PW14_M (SOP, 14-Leads, Body 5x4.4mm, Pitch 0.65mm, IPC Low Density)
pins on every part: 4 V+ (power), 11 V- (power)
part A pins: 1 OUT A (out), 2 IN A- (in), 3 IN A+ (in)
part B pins: 5 IN B+ (in), 6 IN B- (in), 7 OUT B (out)
part C pins: 8 OUT C (out), 9 IN C- (in), 10 IN C+ (in)
part D pins: 12 IN D+ (in), 13 IN D- (in), 14 OUT D (out)

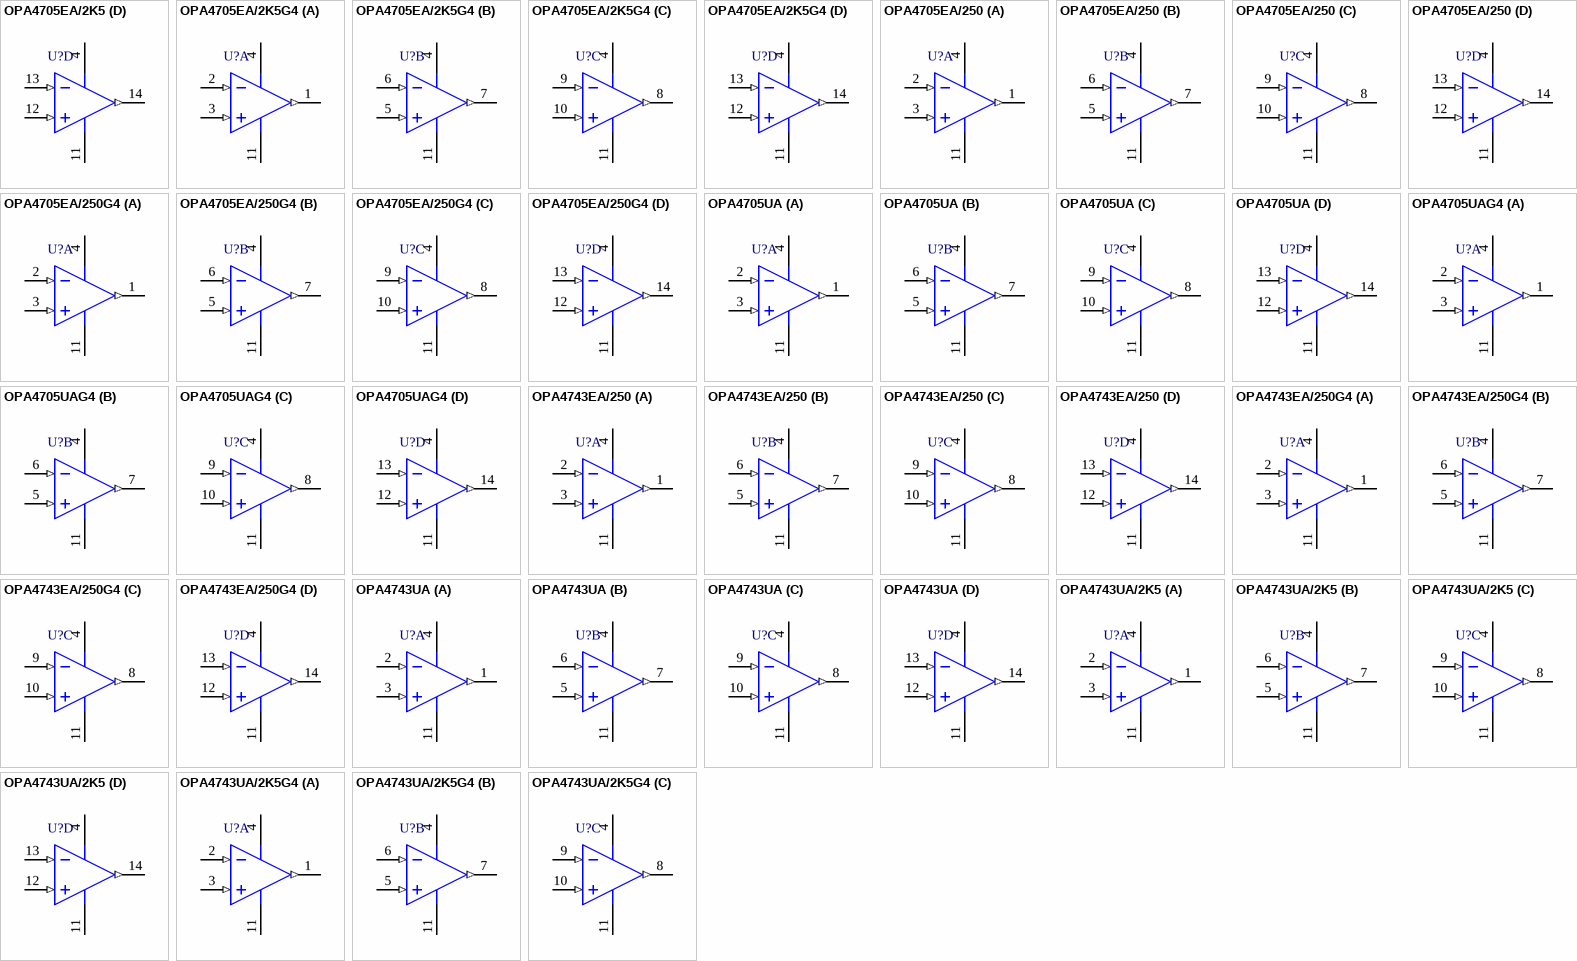
[diagram p68: symbols OPA4705EA/2K5 to OPA4743UA/2K5G4]

## OPA4705EA/2K5
designator U?
Low Cost, CMOS, Rail-to-Rail I/O, Operational Amplifier, 4 to 12 V, -40 to 85 degC, 14-pin SOP (PW14), Green (RoHS & no Sb/Br); Manufacturer: Texas Instruments; PartNumber: OPA4705EA/2K5; CMRR(Min)(dB): 66; IIB(Max)(pA): 10; Iq per channel(Max)(mA): 0.25; Number of Channels: 4; Slew Rate(Typ)(V/us): 0.6; Sub Family: Low Input Bias Current Amp (<=10pA), Low Power Amp (<=500uA), Precision Amplifier; Total Supply Voltage(Max)(+5V is 5, +/-5V is 10): 12; Vio (25C)(Max)(mV): 5; Vn at 1kHz(Typ)(nV/rtHz): 45; DatasheetVersion: SBOS182A; PackageVersion: 4040064-3/G, 02/2011; PackageReference: PW14; PackageDescription: 14-Pin Plastic Small Outline, Body 5 x 4.4 mm, Pitch 0.65 mm; Supplier 1: Digi-Key; Supplier Part Number 1: OPA4705EA/2K5TR-ND; Supplier 2: Digi-Key; Supplier Part Number 2: OPA4705EA/2K5CT-ND; Supplier 3: Digi-Key; Supplier Part Number 3: OPA4705EA/2K5DKR-ND; Supplier 4: Mouser; Supplier Part Number 4: 595-OPA4705EA/2K5; Eco-Plan: Green (RoHS & no Sb/Br); Offset Drift(Typ)(uV/C): 4; Total Supply Voltage(Min)(+5V is 5, +/-5V is 10): 4; Mounting Technology: Surface Mount; Code_JEDEC: MO-153; ComponentLink1Description: Manufacturer URL; ComponentLink1URL: http://www.ti.com/; ComponentLink2Description: Datasheet; ComponentLink2URL: http://www.ti.com/general/docs/lit/getliterature.tsp?genericPartNumber=OPA4705&fileType=pdf; ComponentLink3Description: Package Specification; ComponentLink3URL: http://www.ti.com/litv/pdf/mpds360
footprint TI-PW14_N (SOP, 14-Leads, Body 5x4.4mm, Pitch 0.65mm, IPC Medium Density)
footprint TI-PW14_L (SOP, 14-Leads, Body 5x4.4mm, Pitch 0.65mm, IPC High Density)
footprint TI-PW14_M (SOP, 14-Leads, Body 5x4.4mm, Pitch 0.65mm, IPC Low Density)
pins on every part: 4 V+ (power), 11 V- (power)
part A pins: 1 OUT A (out), 2 IN A- (in), 3 IN A+ (in)
part B pins: 5 IN B+ (in), 6 IN B- (in), 7 OUT B (out)
part C pins: 8 OUT C (out), 9 IN C- (in), 10 IN C+ (in)
part D pins: 12 IN D+ (in), 13 IN D- (in), 14 OUT D (out)

## OPA4705EA/2K5G4
designator U?
Low Cost, CMOS, Rail-to-Rail I/O, Operational Amplifier, 4 to 12 V, -40 to 85 degC, 14-pin SOP (PW14), Green (RoHS & no Sb/Br); Manufacturer: Texas Instruments; PartNumber: OPA4705EA/2K5G4; CMRR(Min)(dB): 66; IIB(Max)(pA): 10; Iq per channel(Max)(mA): 0.25; Number of Channels: 4; Slew Rate(Typ)(V/us): 0.6; Sub Family: Low Input Bias Current Amp (<=10pA), Low Power Amp (<=500uA), Precision Amplifier; Total Supply Voltage(Max)(+5V is 5, +/-5V is 10): 12; Vio (25C)(Max)(mV): 5; Vn at 1kHz(Typ)(nV/rtHz): 45; DatasheetVersion: SBOS182A; PackageVersion: 4040064-3/G, 02/2011; PackageReference: PW14; PackageDescription: 14-Pin Plastic Small Outline, Body 5 x 4.4 mm, Pitch 0.65 mm; Supplier 1: Digi-Key; Supplier Part Number 1: OPA4705EA/2K5G4-ND; Supplier 2: Mouser; Supplier Part Number 2: 595-OPA4705EA/2K5G4; Eco-Plan: Green (RoHS & no Sb/Br); Offset Drift(Typ)(uV/C): 4; Total Supply Voltage(Min)(+5V is 5, +/-5V is 10): 4; Mounting Technology: Surface Mount; Code_JEDEC: MO-153; ComponentLink1Description: Manufacturer URL; ComponentLink1URL: http://www.ti.com/; ComponentLink2Description: Datasheet; ComponentLink2URL: http://www.ti.com/general/docs/lit/getliterature.tsp?genericPartNumber=OPA4705&fileType=pdf; ComponentLink3Description: Package Specification; ComponentLink3URL: http://www.ti.com/litv/pdf/mpds360
footprint TI-PW14_N (SOP, 14-Leads, Body 5x4.4mm, Pitch 0.65mm, IPC Medium Density)
footprint TI-PW14_L (SOP, 14-Leads, Body 5x4.4mm, Pitch 0.65mm, IPC High Density)
footprint TI-PW14_M (SOP, 14-Leads, Body 5x4.4mm, Pitch 0.65mm, IPC Low Density)
pins on every part: 4 V+ (power), 11 V- (power)
part A pins: 1 OUT A (out), 2 IN A- (in), 3 IN A+ (in)
part B pins: 5 IN B+ (in), 6 IN B- (in), 7 OUT B (out)
part C pins: 8 OUT C (out), 9 IN C- (in), 10 IN C+ (in)
part D pins: 12 IN D+ (in), 13 IN D- (in), 14 OUT D (out)

## OPA4705EA/250
designator U?
Low Cost, CMOS, Rail-to-Rail I/O, Operational Amplifier, 4 to 12 V, -40 to 85 degC, 14-pin SOP (PW14), Green (RoHS & no Sb/Br); Manufacturer: Texas Instruments; PartNumber: OPA4705EA/250; CMRR(Min)(dB): 66; IIB(Max)(pA): 10; Iq per channel(Max)(mA): 0.25; Number of Channels: 4; Slew Rate(Typ)(V/us): 0.6; Sub Family: Low Input Bias Current Amp (<=10pA), Low Power Amp (<=500uA), Precision Amplifier; Total Supply Voltage(Max)(+5V is 5, +/-5V is 10): 12; Vio (25C)(Max)(mV): 5; Vn at 1kHz(Typ)(nV/rtHz): 45; DatasheetVersion: SBOS182A; PackageVersion: 4040064-3/G, 02/2011; PackageReference: PW14; PackageDescription: 14-Pin Plastic Small Outline, Body 5 x 4.4 mm, Pitch 0.65 mm; Supplier 1: Digi-Key; Supplier Part Number 1: 296-17095-2-ND; Supplier 2: Digi-Key; Supplier Part Number 2: 296-17095-1-ND; Supplier 3: Digi-Key; Supplier Part Number 3: 296-17095-6-ND; Supplier 4: Newark; Supplier Part Number 4: 75C5047; Supplier 5: Mouser; Supplier Part Number 5: 595-OPA4705EA/250; Eco-Plan: Green (RoHS & no Sb/Br); Offset Drift(Typ)(uV/C): 4; Total Supply Voltage(Min)(+5V is 5, +/-5V is 10): 4; Mounting Technology: Surface Mount; Code_JEDEC: MO-153; ComponentLink1Description: Manufacturer URL; ComponentLink1URL: http://www.ti.com/; ComponentLink2Description: Datasheet; ComponentLink2URL: http://www.ti.com/general/docs/lit/getliterature.tsp?genericPartNumber=OPA4705&fileType=pdf; ComponentLink3Description: Package Specification; ComponentLink3URL: http://www.ti.com/litv/pdf/mpds360
footprint TI-PW14_N (SOP, 14-Leads, Body 5x4.4mm, Pitch 0.65mm, IPC Medium Density)
footprint TI-PW14_L (SOP, 14-Leads, Body 5x4.4mm, Pitch 0.65mm, IPC High Density)
footprint TI-PW14_M (SOP, 14-Leads, Body 5x4.4mm, Pitch 0.65mm, IPC Low Density)
pins on every part: 4 V+ (power), 11 V- (power)
part A pins: 1 OUT A (out), 2 IN A- (in), 3 IN A+ (in)
part B pins: 5 IN B+ (in), 6 IN B- (in), 7 OUT B (out)
part C pins: 8 OUT C (out), 9 IN C- (in), 10 IN C+ (in)
part D pins: 12 IN D+ (in), 13 IN D- (in), 14 OUT D (out)

## OPA4705EA/250G4
designator U?
Low Cost, CMOS, Rail-to-Rail I/O, Operational Amplifier, 4 to 12 V, -40 to 85 degC, 14-pin SOP (PW14), Green (RoHS & no Sb/Br); Manufacturer: Texas Instruments; PartNumber: OPA4705EA/250G4; CMRR(Min)(dB): 66; IIB(Max)(pA): 10; Iq per channel(Max)(mA): 0.25; Number of Channels: 4; Slew Rate(Typ)(V/us): 0.6; Sub Family: Low Input Bias Current Amp (<=10pA), Low Power Amp (<=500uA), Precision Amplifier; Total Supply Voltage(Max)(+5V is 5, +/-5V is 10): 12; Vio (25C)(Max)(mV): 5; Vn at 1kHz(Typ)(nV/rtHz): 45; DatasheetVersion: SBOS182A; PackageVersion: 4040064-3/G, 02/2011; PackageReference: PW14; PackageDescription: 14-Pin Plastic Small Outline, Body 5 x 4.4 mm, Pitch 0.65 mm; Supplier 1: Digi-Key; Supplier Part Number 1: OPA4705EA/250G4-ND; Supplier 2: Mouser; Supplier Part Number 2: 595-OPA4705EA/250G4; Eco-Plan: Green (RoHS & no Sb/Br); Offset Drift(Typ)(uV/C): 4; Total Supply Voltage(Min)(+5V is 5, +/-5V is 10): 4; Mounting Technology: Surface Mount; Code_JEDEC: MO-153; ComponentLink1Description: Manufacturer URL; ComponentLink1URL: http://www.ti.com/; ComponentLink2Description: Datasheet; ComponentLink2URL: http://www.ti.com/general/docs/lit/getliterature.tsp?genericPartNumber=OPA4705&fileType=pdf; ComponentLink3Description: Package Specification; ComponentLink3URL: http://www.ti.com/litv/pdf/mpds360
footprint TI-PW14_N (SOP, 14-Leads, Body 5x4.4mm, Pitch 0.65mm, IPC Medium Density)
footprint TI-PW14_L (SOP, 14-Leads, Body 5x4.4mm, Pitch 0.65mm, IPC High Density)
footprint TI-PW14_M (SOP, 14-Leads, Body 5x4.4mm, Pitch 0.65mm, IPC Low Density)
pins on every part: 4 V+ (power), 11 V- (power)
part A pins: 1 OUT A (out), 2 IN A- (in), 3 IN A+ (in)
part B pins: 5 IN B+ (in), 6 IN B- (in), 7 OUT B (out)
part C pins: 8 OUT C (out), 9 IN C- (in), 10 IN C+ (in)
part D pins: 12 IN D+ (in), 13 IN D- (in), 14 OUT D (out)

## OPA4705UA
designator U?
Low Cost, CMOS, Rail-to-Rail I/O, Operational Amplifier, 4 to 12 V, -40 to 85 degC, 14-pin SOIC (D14), Green (RoHS & no Sb/Br); Manufacturer: Texas Instruments; PartNumber: OPA4705UA; CMRR(Min)(dB): 66; IIB(Max)(pA): 10; Iq per channel(Max)(mA): 0.25; Number of Channels: 4; Slew Rate(Typ)(V/us): 0.6; Sub Family: Low Input Bias Current Amp (<=10pA), Low Power Amp (<=500uA), Precision Amplifier; Total Supply Voltage(Max)(+5V is 5, +/-5V is 10): 12; Vio (25C)(Max)(mV): 5; Vn at 1kHz(Typ)(nV/rtHz): 45; DatasheetVersion: SBOS182A; PackageVersion: 4040047-5/M, 06/2011; PackageReference: D14; PackageDescription: 14-Pin Plastic Small Outline, Body 8.65 x 3.9 mm, Pitch 1.27 mm; Supplier 1: Digi-Key; Supplier Part Number 1: OPA4705UA-ND; Supplier 2: Farnell; Supplier Part Number 2: 1535059; Supplier 3: Newark; Supplier Part Number 3: 75C5048; Supplier 4: Mouser; Supplier Part Number 4: 595-OPA4705UA; Eco-Plan: Green (RoHS & no Sb/Br); Offset Drift(Typ)(uV/C): 4; Total Supply Voltage(Min)(+5V is 5, +/-5V is 10): 4; Mounting Technology: Surface Mount; Code_JEDEC: MS-012; ComponentLink1Description: Manufacturer URL; ComponentLink1URL: http://www.ti.com/; ComponentLink2Description: Datasheet; ComponentLink2URL: http://www.ti.com/general/docs/lit/getliterature.tsp?genericPartNumber=OPA4705&fileType=pdf; ComponentLink3Description: Package Specification; ComponentLink3URL: http://www.ti.com/lit/ml/mpds177g/mpds177g.pdf
footprint TI-D14_N (SOIC, 14-Leads, Body 8.65x3.9mm, Pitch 1.27mm, IPC Medium Density)
footprint TI-D14_L (SOIC, 14-Leads, Body 8.65x3.9mm, Pitch 1.27mm, IPC High Density)
footprint TI-D14_M (SOIC, 14-Leads, Body 8.65x3.9mm, Pitch 1.27mm, IPC Low Density)
pins on every part: 4 V+ (power), 11 V- (power)
part A pins: 1 OUT A (out), 2 IN A- (in), 3 IN A+ (in)
part B pins: 5 IN B+ (in), 6 IN B- (in), 7 OUT B (out)
part C pins: 8 OUT C (out), 9 IN C- (in), 10 IN C+ (in)
part D pins: 12 IN D+ (in), 13 IN D- (in), 14 OUT D (out)